# Altium footprint library STACKUP-SPE-8LAYERS.PcbLib: 1 footprints
Each footprint in its own frame and in the unit in brackets; x right, y up, seen from the top. Pads: shape width x height; smd on the part's side, far side on the other; paste and mask are expansions set on the pad; w line width, h text height; cw(c..) or ccw(c..) is an arc to the next point about the centre after c.
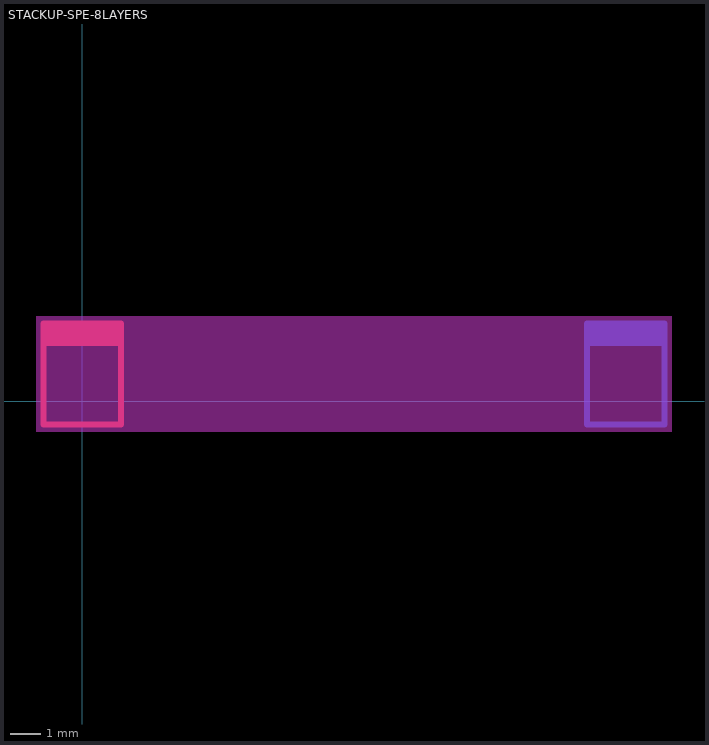
[diagram p0: the footprint, top view; thin cyan lines are the x and y axes]

## STACKUP-SPE-8LAYERS [mm]
Top Layer:
  rectangle: -1.27,1.905 1.27,2.54
  lines w0.2: -1.27,1.905 -1.27,2.54 1.27,2.54 1.27,1.905 ; -1.27,1.905 1.27,1.905 ; -1.27,1.905 -1.27,-0.762 1.27,-0.762 1.27,1.905
  text "1" at -0.254,-0.381 h2
Bottom Layer:
  rectangle: 16.51,1.905 19.05,2.54
  lines w0.2: 16.51,1.905 16.51,-0.762 19.05,-0.762 19.05,1.905 ; 16.51,1.905 19.05,1.905 ; 16.51,1.905 16.51,2.54 19.05,2.54 19.05,1.905
  text "8" at 18.542,-0.381 h2
Keep-Out Layer:
  rectangle: -1.524,-1.016 19.304,2.794